# EAGLE library part PINHD-2X4 (library pinhead)
PIN HEADER
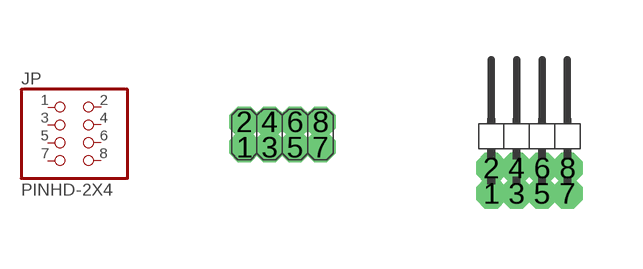
[diagram p21: symbol with the pads of 2X04; footprints 2X04, 2X04/90]

Designator prefix JP

## PINHD-2X4  [2X04]
1  1  pas
2  2  pas
3  3  pas
4  4  pas
5  5  pas
6  6  pas
7  7  pas
8  8  pas

## PINHD-2X4/90  [2X04/90]
Pads as for 2X04

## Footprint 2X04 (pad centres in mm)
PIN HEADER
drill 0.254 octagon: 1 -0.953,-0.318; 2 -0.953,0.318; 3 -0.318,-0.318; 4 -0.318,0.318; 5 0.318,-0.318; 6 0.318,0.318; 7 0.953,-0.318; 8 0.953,0.318

## Footprint 2X04/90 (pad centres in mm)
PIN HEADER
drill 0.254 octagon: 1 -0.953,-1.587; 2 -0.953,-0.953; 3 -0.318,-1.587; 4 -0.318,-0.953; 5 0.318,-1.587; 6 0.318,-0.953; 7 0.953,-1.587; 8 0.953,-0.953